# Altium footprint library Wurth_Elektronik_Passive_rev16a.PCBLIB: 810 footprints (part 24 of 51)
Each footprint in its own frame and in the unit in brackets; x right, y up, seen from the top. Pads: shape width x height; smd on the part's side, far side on the other; paste and mask are expansions set on the pad; w line width, h text height; cw(c..) or ccw(c..) is an arc to the next point about the centre after c.
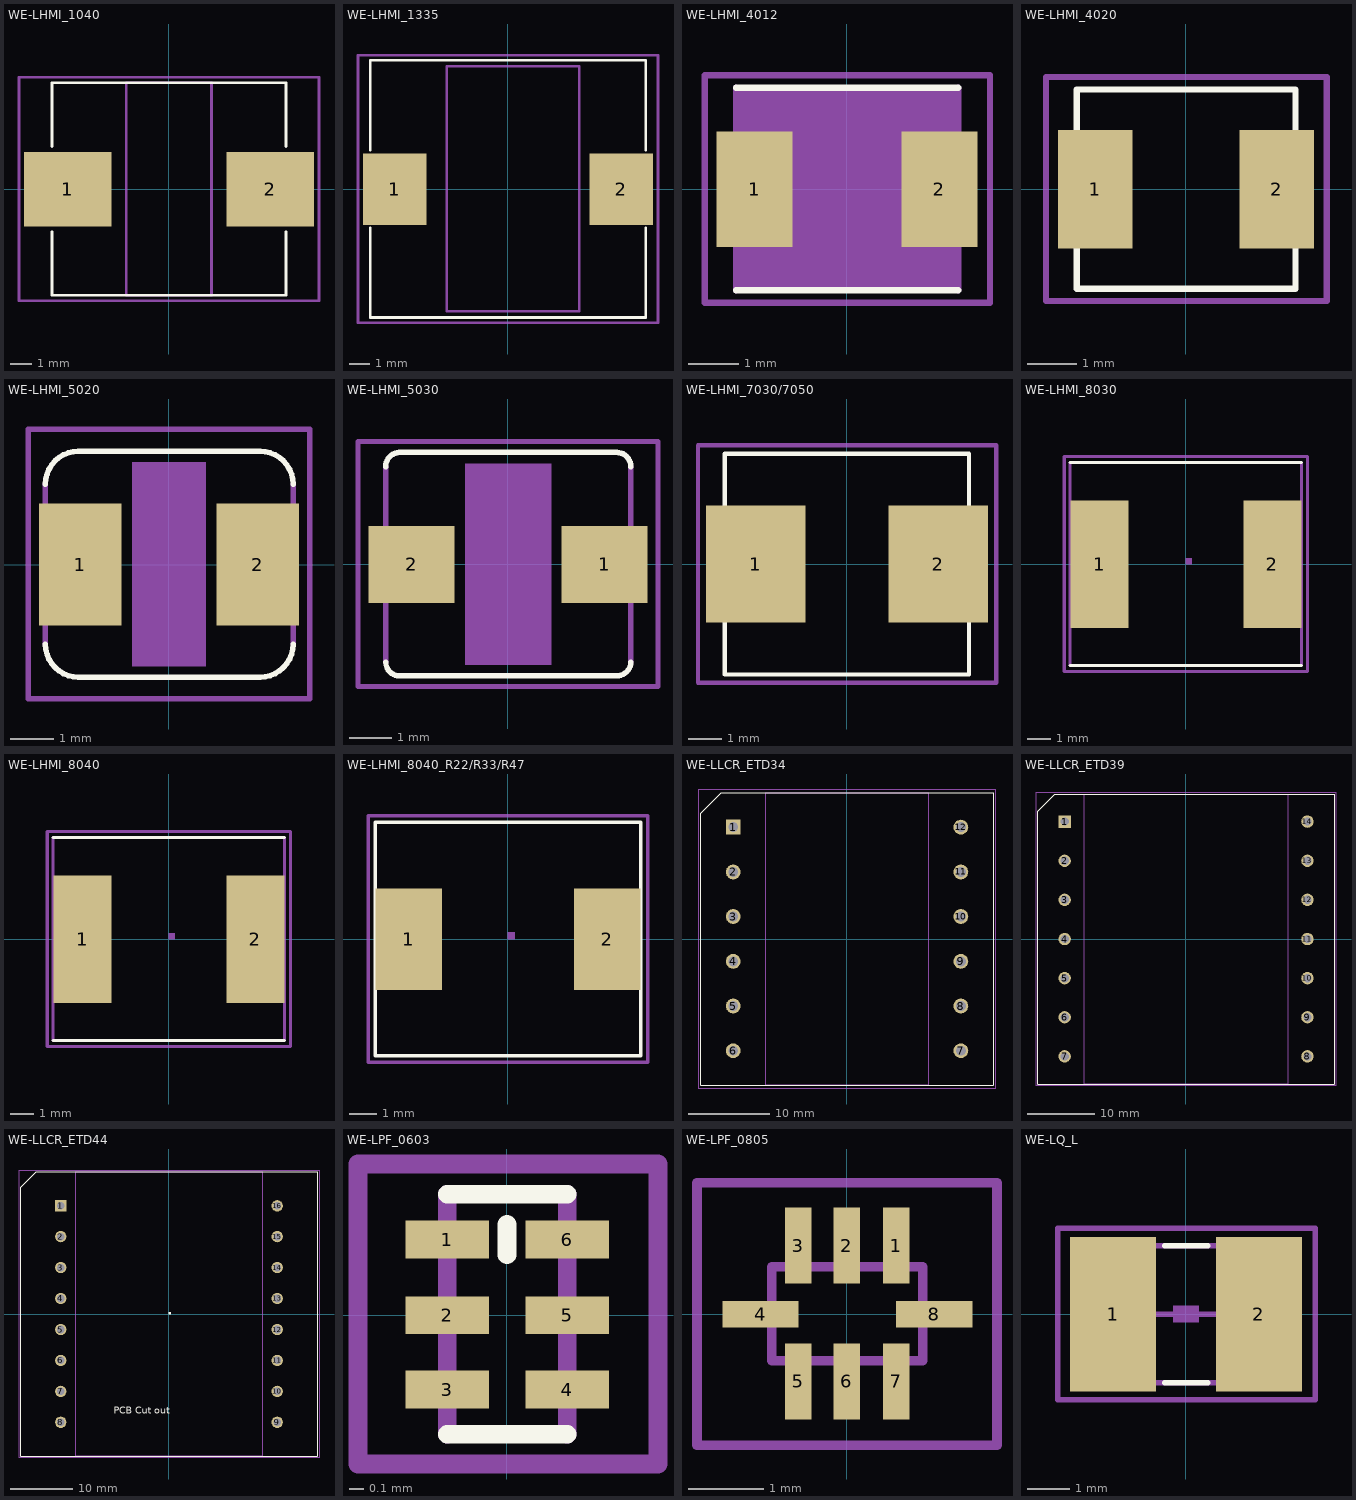
[diagram p23: the footprints below, top view; thin cyan lines are the x and y axes]

## WE-LHMI_1040 [mil]
pads (2):
  rect 162x138 smd: 1(-187.01,0) 2(188,0)
Top Overlay:
  lines w5: -216.54,-78.74 -216.54,-196.85 217,-196.85 217,-78.74 ; -216.54,79 -216.54,197 217,197 217,79
Mechanical 2:
  text ">NAME" at -367.87,244 h77.5
Mechanical 4:
  text ">VALUE" at -367.87,-313.93 h77.5
Mechanical 10:
  lines w5: -78.74,-196.85 -78.74,197 79,197 79,-196.85 -78.74,-196.85
Mechanical 27:
  lines w5: -277.56,-206.69 -277.56,207 278,207 278,-206.69 -277.56,-206.69

## WE-LHMI_1335 [mil]
pads (2):
  rect 123x138 smd: 1(-218.5,0) 2(219,0)
Top Overlay:
  lines w5: -265.75,-74.8 -265.75,-248.03 266,-248.03 266,-74.8 ; -265.75,75 -265.75,249 266,249 266,75
Mechanical 2:
  text ">NAME" at -368.35,296 h77.5
Mechanical 4:
  text ">VALUE" at -368.35,-345.65 h77.5
Mechanical 10:
  lines w5: -118.11,-236.22 -118.11,237 138,237 138,-236.22 -118.11,-236.22
Mechanical 27:
  lines w5: -289.37,-257.87 -289.37,258 290,258 290,-257.87 -289.37,-257.87

## WE-LHMI_4012 [mil]
pads (2):
  rect 60x91 smd: 1(-72.83,0) 2(73,0)
Top Overlay:
  lines w5: -87.6,-79.92 88,-79.92 ; -87.6,80 88,80
Mechanical 2:
  text ">NAME" at -125,125 h77.5
Mechanical 4:
  text ">VALUE" at -125,-150 h77.5
Mechanical 10:
  rectangle: -87.6,-79.92 88,80
Mechanical 16:
  lines w5: -87.6,-79.92 -87.6,80 ; 88,-79.92 88,80
Mechanical 27:
  lines w5: -112.2,-89.76 -112.2,90 113,90 113,-89.76 -112.2,-89.76

## WE-LHMI_4020 [mil]
pads (2):
  rect 60x95 smd: 1(-72.83,0) 2(73,0)
Top Overlay:
  lines w5: -87.6,-47.24 -87.6,-79.92 88,-79.92 88,-47.24 ; -87.6,48 -87.6,80 88,80 88,48
Mechanical 2:
  text ">NAME" at -118.36,106 h24.8
Mechanical 4:
  text ">VALUE" at -118.36,-124.73 h24.8
Mechanical 27:
  lines w5: -112.2,-89.76 -112.2,90 113,90 113,-89.76 -112.2,-89.76

## WE-LHMI_5020 [mil]
pads (2):
  rect 75x111 smd: 1(-80.71,0) 2(81,0)
Top Overlay:
  lines w5: -112.2,-72.4 ccw(c-82.24,-72.4) -82.24,-102.36 83,-102.36 ccw(c83.02,-72.38) 113,-72.4 ; -112.2,73 cw(c-82.22,73.02) -82.24,103 83,103 cw(c83,73) 113,73
Mechanical 2:
  text ">NAME" at -125,150 h77.5
Mechanical 4:
  text ">VALUE" at -125,-200 h77.5
Mechanical 10:
  rectangle: -33.46,-92.52 34,93
Mechanical 16:
  lines w5: -112.2,-72.4 -112.2,73 ; 113,-72.4 113,73
Mechanical 27:
  lines w5: -127.95,-122.05 -127.95,123 128,123 128,-122.05 -127.95,-122.05

## WE-LHMI_5030 [mil]
pads (2):
  rect 79x71 smd: 1(89,0) 2(-88.58,0)
Top Overlay:
  lines w5: -112.2,-89.93 ccw(c-99.77,-89.93) -99.77,-102.36 100,-102.36 ccw(c100.28,-89.65) 113,-89.93 ; -112.2,90 cw(c-99.49,90.28) -99.77,103 100,103 cw(c100,90) 113,90
Mechanical 2:
  text ">NAME" at -150,150 h77.5
Mechanical 4:
  text ">VALUE" at -150,-200 h77.5
Mechanical 10:
  rectangle: -39.37,-92.52 40,93
Mechanical 16:
  lines w5: -112.2,-89.93 -112.2,90 ; 113,-89.93 113,90
Mechanical 27:
  lines w5: -137.8,-112.2 -137.8,113 138,113 138,-112.2 -137.8,-112.2

## WE-LHMI_7030/7050 [mil]
pads (2):
  rect 117x138 smd: 1(-107.28,0) 2(108,0)
Top Overlay:
  lines w5: -143.7,-68.9 -143.7,-129.92 144,-129.92 144,-68.9 ; -143.7,69 -143.7,130 144,130 144,69
Mechanical 2:
  text ">NAME" at -278.17,175 h77.5
Mechanical 4:
  text ">VALUE" at -278.17,-244.32 h77.5
Mechanical 27:
  lines w5: -175.2,-139.76 -175.2,140 176,140 176,-139.76 -175.2,-139.76

## WE-LHMI_8030 [mil]
pads (2):
  rect 96x210 smd: 1(-142.42,0) 2(143,0)
Top Overlay:
  lines w5: -190.94,-167.32 191,-167.32 ; -190.94,168 191,168
Mechanical 2:
  text ">NAME" at -192.91,205 h77.5
Mechanical 4:
  text ">VALUE" at -192.91,-251.97 h77.5
Mechanical 10:
  region: 0,0 10,0 10,10 0,10
Mechanical 16:
  lines w5: -190.94,-167.32 -190.94,168 ; 191,-167.32 191,168
Mechanical 27:
  lines w5: -200.79,-177.17 201,-177.17 201,178 -200.79,178 -200.79,-177.17

## WE-LHMI_8040 [mil]
pads (2):
  rect 96x210 smd: 1(-142.42,0) 2(143,0)
Top Overlay:
  lines w5: -190.94,-167.32 191,-167.32 ; -190.94,168 191,168
Mechanical 2:
  text ">NAME" at -200.79,217 h77.5
Mechanical 4:
  text ">VALUE" at -200.79,-240.16 h77.5
Mechanical 10:
  region: 0,0 10,0 10,10 0,10
Mechanical 16:
  lines w5: -190.94,-167.32 -190.94,168 ; 191,-167.32 191,168
Mechanical 27:
  lines w5: -200.79,-177.17 201,-177.17 201,178 -200.79,178 -200.79,-177.17

## WE-LHMI_8040_R22/R33/R47 [mil]
pads (2):
  rect 96x146 smd: 1(-142.42,0) 2(143,0)
Top Overlay:
  lines w5: -190.94,-167.32 191,-167.32 191,168 -190.94,168 -190.94,-167.32
Mechanical 2:
  text ">NAME" at -192.91,205 h77.5
Mechanical 4:
  text ">VALUE" at -192.91,-251.97 h77.5
Mechanical 10:
  region: 0,0 10,0 10,10 0,10
Mechanical 27:
  lines w5: -200.79,-177.17 201,-177.17 201,178 -200.79,178 -200.79,-177.17

## WE-LLCR_ETD34 [mil]
pads (12):
  rect 72x72 hole 48: 1(-551.18,542)
  round 72 hole 48: 2(-551.18,325) 3(-551.18,109) 4(-551.18,-108.27) 5(-551.18,-324.8) 6(-551.18,-541.34) 7(552,-541.34) 8(552,-324.8) 9(552,-108.27) 10(552,109) 11(552,325) 12(552,542)
Top Overlay:
  lines w5: -708.66,-708.66 -708.66,609 -608.66,709 709,709 709,-708.66 -708.66,-708.66
Mechanical 2:
  text ">NAME" at -746.46,767 h77.5
Mechanical 4:
  text ">VALUE" at -757.09,-825.2 h77.5
Mechanical 10:
  lines w5: -393.7,-708.66 394,-708.66 394,709 -393.7,709 -393.7,-708.66
Mechanical 27:
  lines w5: -718.5,-726.77 719,-726.77 719,727 -718.5,727 -718.5,-726.77

## WE-LLCR_ETD39 [mil]
pads (14):
  rect 72x72 hole 48: 1(-708.66,686)
  round 72 hole 48: 2(-708.66,457) 3(-708.66,229) 4(-708.66,0) 5(-708.66,-228.35) 6(-708.66,-456.69) 7(-708.66,-685.04) 8(709,-685.04) 9(709,-456.69) 10(709,-228.35) 11(709,0) 12(709,229) 13(709,457) 14(709,686)
Top Overlay:
  lines w5: -866.14,-846.46 -866.14,747 -766.14,847 867,847 867,-846.46 -866.14,-846.46
Mechanical 2:
  text ">NAME" at -896.46,967 h77.5
Mechanical 4:
  text ">VALUE" at -907.09,-975.2 h77.5
Mechanical 10:
  lines w5: -593.7,-846.46 594,-846.46 594,847 -593.7,847 -593.7,-846.46
Mechanical 27:
  lines w5: -875.98,-856.3 876,-856.3 875,857 -875.98,857 -875.98,-856.3

## WE-LLCR_ETD44 [mil]
pads (16):
  rect 72x72 hole 48: 1(-688.98,689)
  round 72 hole 48: 2(-688.98,493) 3(-688.98,296) 4(-688.98,99) 5(-688.98,-98.43) 6(-688.98,-295.28) 7(-688.98,-492.13) 8(-688.98,-688.98) 9(689,-688.98) 10(689,-492.13) 11(689,-295.28) 12(689,-98.43) 13(689,99) 14(689,296) 15(689,493) 16(689,689)
Top Overlay:
  region: 0,0 10,0 10,10 0,10
  lines w5: -944.88,-905.51 -944.88,806 -844.88,906 945,906 945,-905.51 -944.88,-905.51
  text "PCB Cut out" at -350,-650 h77.5
Mechanical 2:
  text ">NAME" at -896.46,967 h77.5
Mechanical 4:
  text ">VALUE" at -907.09,-1025.2 h77.5
Mechanical 10:
  lines w5: -593.7,-905.51 594,-905.51 594,906 -593.7,906 -593.7,-905.51
Mechanical 27:
  lines w5: -954.72,-915.35 955,-915.35 955,916 -954.72,916 -954.72,-915.35

## WE-LPF_0603 [mil]
pads (6):
  rect 22x10 smd: 1(-15.75,20) 2(-15.75,0) 3(-15.75,-19.68) 4(16,-19.68) 5(16,0) 6(16,20)
Top Overlay:
  lines w5: -15.75,-31.5 16,-31.5 ; -15.75,32 16,32 ; 0,16 0,24
Mechanical 2:
  text ">NAME" at 62,-51.18 h77.5
Mechanical 4:
  text ">VALUE" at 64,102 h77.5
Mechanical 16:
  lines w5: -15.75,-31.5 -15.75,32 ; 16,-31.5 16,32
Mechanical 27:
  lines w5: -39.37,-39.37 40,-39.37 40,40 -39.37,40 -39.37,-39.37

## WE-LPF_0805 [mil]
pads (8):
  rect 14x40 smd: 1(26,36) 2(0,36) 3(-25.59,36) 5(-25.59,-35.43) 6(0,-35.43) 7(26,-35.43)
  rect 40x14 smd: 4(-45.28,0) 8(46,0)
Mechanical 2:
  text ">NAME" at -118.11,75 h77.5
Mechanical 4:
  text ">VALUE" at -125.2,-118.11 h77.5
Mechanical 16:
  lines w5: -39.37,-24.61 -39.37,25 40,25 40,-24.61 -39.37,-24.61
Mechanical 27:
  lines w5: -78.74,-68.9 -78.74,69 79,69 79,-68.9 -78.74,-68.9

## WE-LQ_L [mil]
pads (2):
  rect 79x142 smd: 1(-66.93,0) 2(67,0)
Top Overlay:
  lines w5: -19.68,-62.99 20,-62.99 ; -19.68,63 20,63
Mechanical 2:
  text ">NAME" at -104.53,-164.06 h77.5
Mechanical 4:
  text ">VALUE" at -104.53,100 h77.5
Mechanical 16:
  rectangle: -11.81,-7.87 12,8
  lines w5: -66.93,0 67,0 ; -88.58,-62.99 89,-62.99 89,63 -88.58,63 -88.58,-62.99
Mechanical 27:
  lines w5: -118.11,-78.74 -118.11,79 119,79 119,-78.74 -118.11,-78.74